# Altium schematic symbol library Sch_Espressef_ic_lib.SchLib: 1 symbol
Pins are listed as number, name and electrical type; pins without a type are passive.

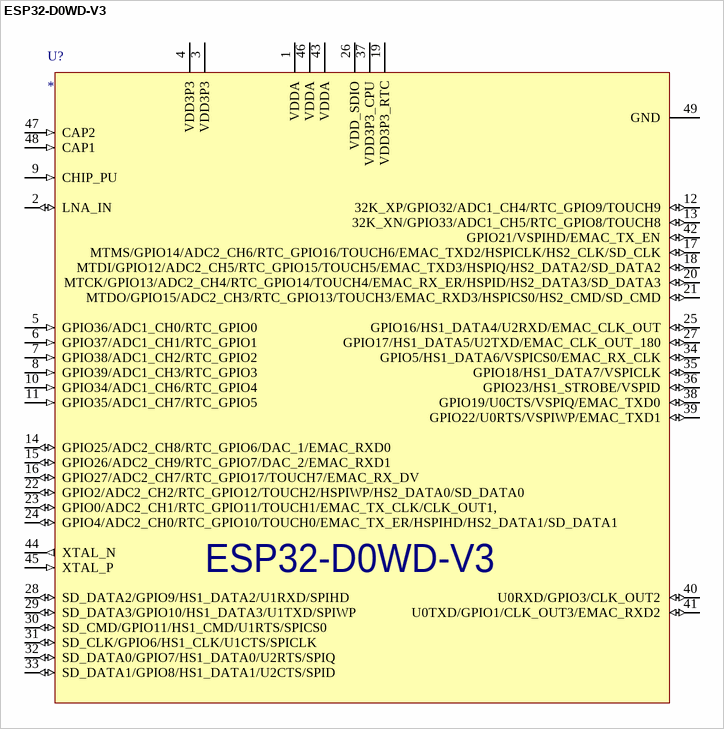
[diagram p0: symbol ESP32-D0WD-V3]

## ESP32-D0WD-V3
designator U?
WIFI-Bluetooth Combo Chip 2412MHz to 2483MHz 3.3V 48-Pin QFN; Manufacturer: Espressif Systems; Manufacturer Part Number: ESP32-D0WD-V3; Supplier: Digikey; Supplier Part Number: 1904-ESP32-D0WD-V3CT-ND; RoHS: No; Category: RF Receivers, Transceivers; Stock: 6439; Pricing: 1=1.84 (USD); ComponentLink1URL: https://www.espressif.com/sites/default/files/documentation/esp32_datasheet_en.pdf?src-supplier=Digikey; ComponentLink1Description: https://www.espressif.com/sites/default/files/documentation/esp32_datasheet_en.pdf?src-supplier=Digikey; LCSC Part #: C967021
footprint QFN48_ESP32-D0WD-V3_EXP
pins: 1 VDDA (power), 2 LNA_IN (io), 3 VDD3P3 (power), 4 VDD3P3 (power), 5 GPIO36/ADC1_CH0/RTC_GPIO0 (in), 6 GPIO37/ADC1_CH1/RTC_GPIO1 (in), 7 GPIO38/ADC1_CH2/RTC_GPIO2 (in), 8 GPIO39/ADC1_CH3/RTC_GPIO3 (in), 9 CHIP_PU (in), 10 GPIO34/ADC1_CH6/RTC_GPIO4 (in), 11 GPIO35/ADC1_CH7/RTC_GPIO5 (in), 12 32K_XP/GPIO32/ADC1_CH4/RTC_GPIO9/TOUCH9 (io), 13 32K_XN/GPIO33/ADC1_CH5/RTC_GPIO8/TOUCH8 (io), 14 GPIO25/ADC2_CH8/RTC_GPIO6/DAC_1/EMAC_RXD0 (io), 15 GPIO26/ADC2_CH9/RTC_GPIO7/DAC_2/EMAC_RXD1 (io), 16 GPIO27/ADC2_CH7/RTC_GPIO17/TOUCH7/EMAC_RX_DV (io), 17 MTMS/GPIO14/ADC2_CH6/RTC_GPIO16/TOUCH6/EMAC_TXD2/HSPICLK/HS2_CLK/SD_CLK (io), 18 MTDI/GPIO12/ADC2_CH5/RTC_GPIO15/TOUCH5/EMAC_TXD3/HSPIQ/HS2_DATA2/SD_DATA2 (io), 19 VDD3P3_RTC (power), 20 MTCK/GPIO13/ADC2_CH4/RTC_GPIO14/TOUCH4/EMAC_RX_ER/HSPID/HS2_DATA3/SD_DATA3 (io), 21 MTDO/GPIO15/ADC2_CH3/RTC_GPIO13/TOUCH3/EMAC_RXD3/HSPICS0/HS2_CMD/SD_CMD (io), 22 GPIO2/ADC2_CH2/RTC_GPIO12/TOUCH2/HSPIWP/HS2_DATA0/SD_DATA0 (io), 23 GPIO0/ADC2_CH1/RTC_GPIO11/TOUCH1/EMAC_TX_CLK/CLK_OUT1, (io), 24 GPIO4/ADC2_CH0/RTC_GPIO10/TOUCH0/EMAC_TX_ER/HSPIHD/HS2_DATA1/SD_DATA1 (io), 25 GPIO16/HS1_DATA4/U2RXD/EMAC_CLK_OUT (io), 26 VDD_SDIO (power), 27 GPIO17/HS1_DATA5/U2TXD/EMAC_CLK_OUT_180 (io), 28 SD_DATA2/GPIO9/HS1_DATA2/U1RXD/SPIHD (io), 29 SD_DATA3/GPIO10/HS1_DATA3/U1TXD/SPIWP (io), 30 SD_CMD/GPIO11/HS1_CMD/U1RTS/SPICS0 (io), 31 SD_CLK/GPIO6/HS1_CLK/U1CTS/SPICLK (io), 32 SD_DATA0/GPIO7/HS1_DATA0/U2RTS/SPIQ (io), 33 SD_DATA1/GPIO8/HS1_DATA1/U2CTS/SPID (io), 34 GPIO5/HS1_DATA6/VSPICS0/EMAC_RX_CLK (io), 35 GPIO18/HS1_DATA7/VSPICLK (io), 36 GPIO23/HS1_STROBE/VSPID (io), 37 VDD3P3_CPU (power), 38 GPIO19/U0CTS/VSPIQ/EMAC_TXD0 (io), 39 GPIO22/U0RTS/VSPIWP/EMAC_TXD1 (io), 40 U0RXD/GPIO3/CLK_OUT2 (io), 41 U0TXD/GPIO1/CLK_OUT3/EMAC_RXD2 (io), 42 GPIO21/VSPIHD/EMAC_TX_EN (io), 43 VDDA (power), 44 XTAL_N (out), 45 XTAL_P (in), 46 VDDA (power), 47 CAP2 (in), 48 CAP1 (in), 49 GND (power)